# Altium footprint library B4B-PH-SM4-TB.PcbLib: 2 footprints
Each footprint in its own frame and in the unit in brackets; x right, y up, seen from the top. Pads: shape width x height; smd on the part's side, far side on the other; paste and mask are expansions set on the pad; w line width, h text height; cw(c..) or ccw(c..) is an arc to the next point about the centre after c.
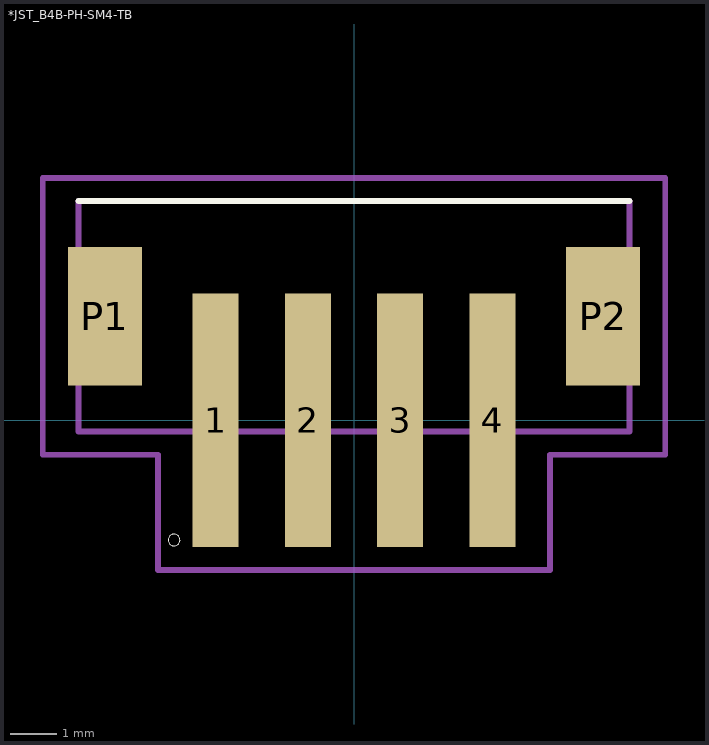
[diagram p0: the footprints below, top view; thin cyan lines are the x and y axes]

## *JST_B4B-PH-SM4-TB [mm]
pads (6):
  rect 1x5.5 smd: 1(-3,0) 2(-1,0) 3(1,0) 4(3,0)
  rect 1.6x3 smd: P1(-5.4,2.25) P2(5.4,2.25)
Top Overlay:
  circle w0: c-3.9,-2.6 r0.127
  lines w0.127: -5.975,4.75 5.975,4.75
Mechanical 4:
  lines w0.127: -5.975,-0.25 -5.975,4.75 -5.975,-0.25 ; -5.975,-0.25 5.975,-0.25 ; -5.975,-0.25 5.975,-0.25 ; 5.975,-0.25 5.975,4.75 5.975,-0.25
Mechanical 16:
  lines w0.127: -6.75,-0.75 -4.25,-0.75 -4.25,-3.25 4.25,-3.25 4.25,-0.75 6.75,-0.75 6.75,5.25 -6.75,5.25 -6.75,-0.75

## PCBComponent_1 [mm]